# EAGLE library part 16X4 (library ds_displays)
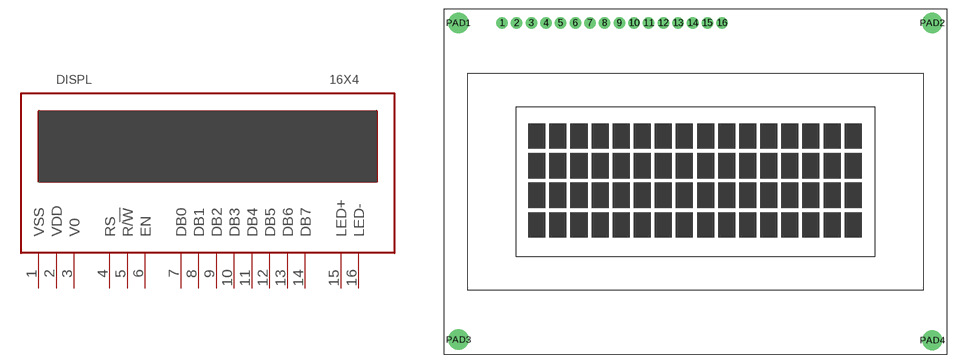
[diagram p6: symbol with the pads of 16X4; footprint 16X4]

Designator prefix DISPL

## 16X4HD44780  [16X4]
1  VSS
2  VDD
3  V0
4  RS
5  R/!W
6  EN
7  DB0
8  DB1
9  DB2
10  DB3
11  DB4
12  DB5
13  DB6
14  DB7
15  LED+
16  LED-

## Footprint 16X4 (pad centres in mm)
drill 1 pad 2: 1 -33.18,27.51; 2 -30.64,27.51; 3 -28.1,27.51; 4 -25.56,27.51; 5 -23.02,27.51; 6 -20.48,27.51; 7 -17.94,27.51; 8 -15.4,27.51; 9 -12.86,27.51; 10 -10.32,27.51; 11 -7.78,27.51; 12 -5.24,27.51; 13 -2.7,27.51; 14 -0.16,27.51; 15 2.38,27.51; 16 4.92,27.51
drill 2.5: PAD1 -40.7,27.53; PAD2 41.3,27.53; PAD3 -40.7,-27.37; PAD4 41.3,-27.47